# Altium integrated library STC.IntLib: 1 symbol
Pins are listed as number, name and electrical type; pins without a type are passive.

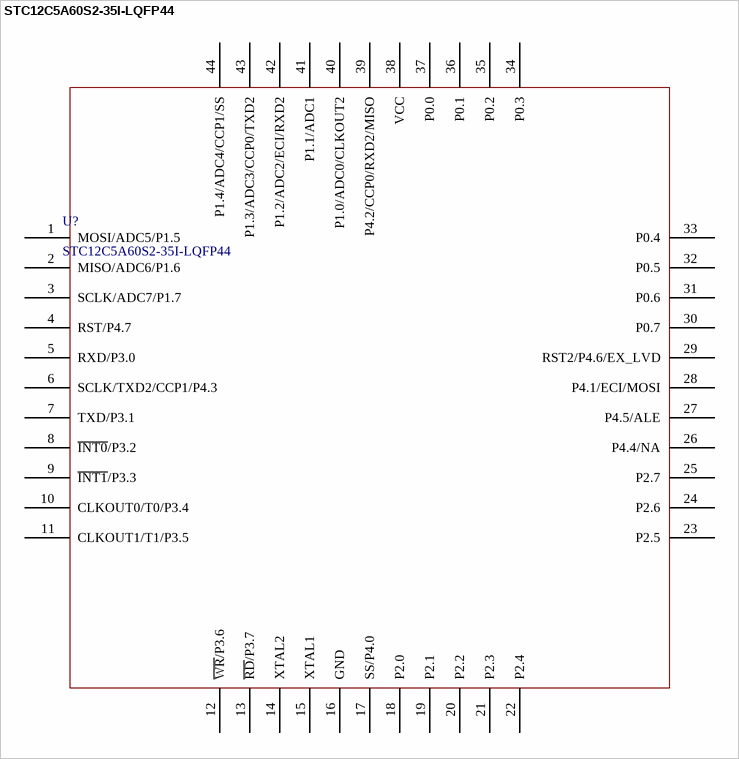
[diagram p0: symbol STC12C5A60S2-35I-LQFP44]

## STC12C5A60S2-35I-LQFP44
designator U?
footprint STC12C5A60S2-35I-LQFP44 (TQFP80P1200X1200X160-44N) (TQFP, 44-Leads, Body 12.0x12.0mm (max), Pitch 0.80mm, IPC Medium Density)
pins: 1 MOSI/ADC5/P1.5, 2 MISO/ADC6/P1.6, 3 SCLK/ADC7/P1.7, 4 RST/P4.7, 5 RXD/P3.0, 6 SCLK/TXD2/CCP1/P4.3, 7 TXD/P3.1, 8 ~{INT0}/P3.2, 9 ~{INT1}/P3.3, 10 CLKOUT0/T0/P3.4, 11 CLKOUT1/T1/P3.5, 12 ~{WR}/P3.6, 13 ~{RD}/P3.7, 14 XTAL2, 15 XTAL1, 16 GND, 17 SS/P4.0, 18 P2.0, 19 P2.1, 20 P2.2, 21 P2.3, 22 P2.4, 23 P2.5, 24 P2.6, 25 P2.7, 26 P4.4/NA, 27 P4.5/ALE, 28 P4.1/ECI/MOSI, 29 RST2/P4.6/EX_LVD, 30 P0.7, 31 P0.6, 32 P0.5, 33 P0.4, 34 P0.3, 35 P0.2, 36 P0.1, 37 P0.0, 38 VCC, 39 P4.2/CCP0/RXD2/MISO, 40 P1.0/ADC0/CLKOUT2, 41 P1.1/ADC1, 42 P1.2/ADC2/ECI/RXD2, 43 P1.3/ADC3/CCP0/TXD2, 44 P1.4/ADC4/CCP1/SS